# EAGLE library part TPS63001DRCR (library TPS63001DRCR)
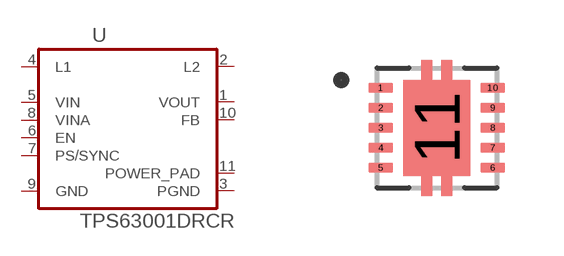
[diagram p0: symbol with the pads of VREG_V62/16624-01YE; footprint VREG_V62/16624-01YE]

Designator prefix U

## TPS63001DRCR  [VREG_V62/16624-01YE]
1  VOUT  out
2  L2
3  PGND  pwr
4  L1
5  VIN  in
6  EN  in
7  PS/SYNC  in
8  VINA  in
9  GND  pwr
10  FB  in
11  POWER_PAD

## Footprint VREG_V62/16624-01YE (pad centres in mm)
smd 0.6 x 0.24: 1 -1.4,1; 2 -1.4,0.5; 3 -1.4,0; 4 -1.4,-0.5; 5 -1.4,-1; 6 1.4,-1; 7 1.4,-0.5; 8 1.4,0; 9 1.4,0.5; 10 1.4,1
smd 1.65 x 2.4: 11 0,0